# Altium footprint library Audio - Buzzer - Amplifier.PcbLib: 3 footprints
Each footprint in its own frame and in the unit in brackets; x right, y up, seen from the top. Pads: shape width x height; smd on the part's side, far side on the other; paste and mask are expansions set on the pad; w line width, h text height; cw(c..) or ccw(c..) is an arc to the next point about the centre after c.
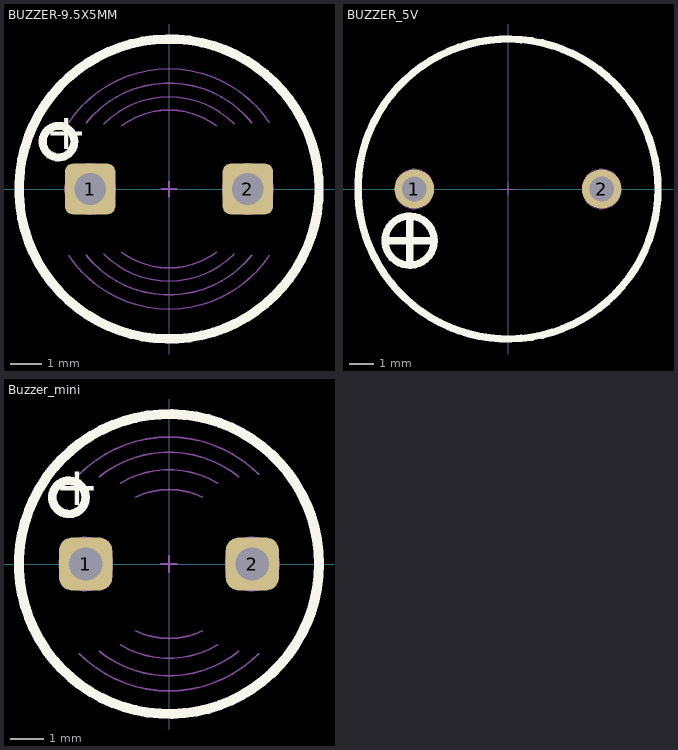
[diagram p0: the footprints below, top view; thin cyan lines are the x and y axes]

## BUZZER-9.5X5MM [mm] "5VDC"
height 5
pads (2):
  rrect30% 1.6x1.6 hole 1 mask+0.1: 1(-2.5,0) 2(2.5,0)
Top Overlay:
  circle w0.3: c0,0 r4.75
  circle w0.254: c-3.5,1.5 r0.5
  text "+" at -3.923,0.87 h2
Top HCB:
  circle w0.05: c-2.5,0 r0.8
  circle w0.05: c2.5,0 r0.8
  circle w0.05: c0,0 r4.75
  lines w0.05: -3.168,-2.112 ccw(c0,0) 3.168,-2.112 ; -3.168,2.112 cw(c0,0) 3.168,2.112 ; -2.619,-2.095 ccw(c0,0) 2.619,-2.095 ; -2.619,2.095 cw(c0,0) 2.619,2.095 ; -2.062,-2.062 ccw(c0,0) 2.062,-2.062 ; -2.062,2.062 cw(c0,0) 2.062,2.062 ; -1.5,-2 ccw(c0,0) 1.5,-2 ; -1.5,2 cw(c0,0) 1.5,2 ; -0.25,0 0.25,0 ; 0,-0.25 0,0.25
  text "+" at -3.923,0.87 h2
  text "1" at -2.717,-0.55 h1
  text "2" at 2.117,-0.55 h1
3D body "Buzzer 9 mm.SLDPRT": height 5.5, standoff -5, extent -4.5,-4.5 4.5,4.5

## BUZZER_5V [mm] "TMB12A05"
height 9.7
pads (2):
  round 1.6 hole 1 mask+0.1: 1(-3.81,0) 2(3.81,0)
Top Overlay:
  circle w0.3: c-4,-2.1 r1
  circle w0.3: c0,0 r6.1
  lines w0.3: -5,-2.1 -3,-2.1 ; -4,-3.1 -4,-1.1
Top HCB:
  lines w0.05: -0.25,0 0.25,0 ; 0,-0.25 0,0.25
Bottom HCB:
  circle w0.05: c-3.81,0 r0.8
  circle w0.05: c-4,-2.1 r1
  circle w0.05: c3.81,0 r0.8
  circle w0.05: c0,0 r6.1
  lines w0.05: -5,-2.1 -3,-2.1 ; -4,-3.1 -4,-1.1
  text "1" at -4.01,-0.5 h1.2
  text "2" at 3.51,-0.6 h1.2
3D body "User Library-Buzzer14mm.step": height 7.35, standoff -3.1, extent -6.81,-7 7.19,7

## Buzzer_mini [mm] "Buzzers Indicator, Internally Driven Electromechanical 5V 25mA 2.5kHz  Through Hole PC Pins"
height 5
pads (2):
  rrect50% 1.6x1.6 hole 1 paste+0.1: 1(-2.5,0) 2(2.5,0)
Top Overlay:
  circle w0.254: c-3,2 r0.5
  circle w0.3: c0,0 r4.5
  text "+" at -3.423,1.37 h2
Top HCB:
  circle w0.254: c-3,2 r0.5
  circle w0.05: c0,0 r4.5
  circle w0.05: c2.5,0 r0.8
  circle w0.05: c-2.5,0 r0.8
  lines w0.05: -2.693,-2.693 ccw(c0,0) 2.693,-2.693 ; -2.693,2.693 cw(c0,0) 2.693,2.693 ; -2.095,-2.619 ccw(c0,0) 2.095,-2.619 ; -2.095,2.619 cw(c0,0) 2.095,2.619 ; -1.455,-2.425 ccw(c0,0) 1.455,-2.425 ; -1.455,2.425 cw(c0,0) 1.455,2.425 ; -1,-2 ccw(c0,0) 1,-2 ; -1,2 cw(c0,0) 1,2 ; -0.25,0 0.25,0 ; 0,-0.25 0,0.25
  text "+" at -3.423,1.37 h2
  text "2" at 2.382,-0.305 h1
  text "1" at -2.618,-0.305 h1
3D body "loa chip12.STEP": height 5.5, standoff -2.5, extent -4.5,-4.5 4.5,4.5